# Altium schematic symbol library 6_Layer_Library.SchLib: 38 symbols
Pins are listed as number, name and electrical type; pins without a type are passive.

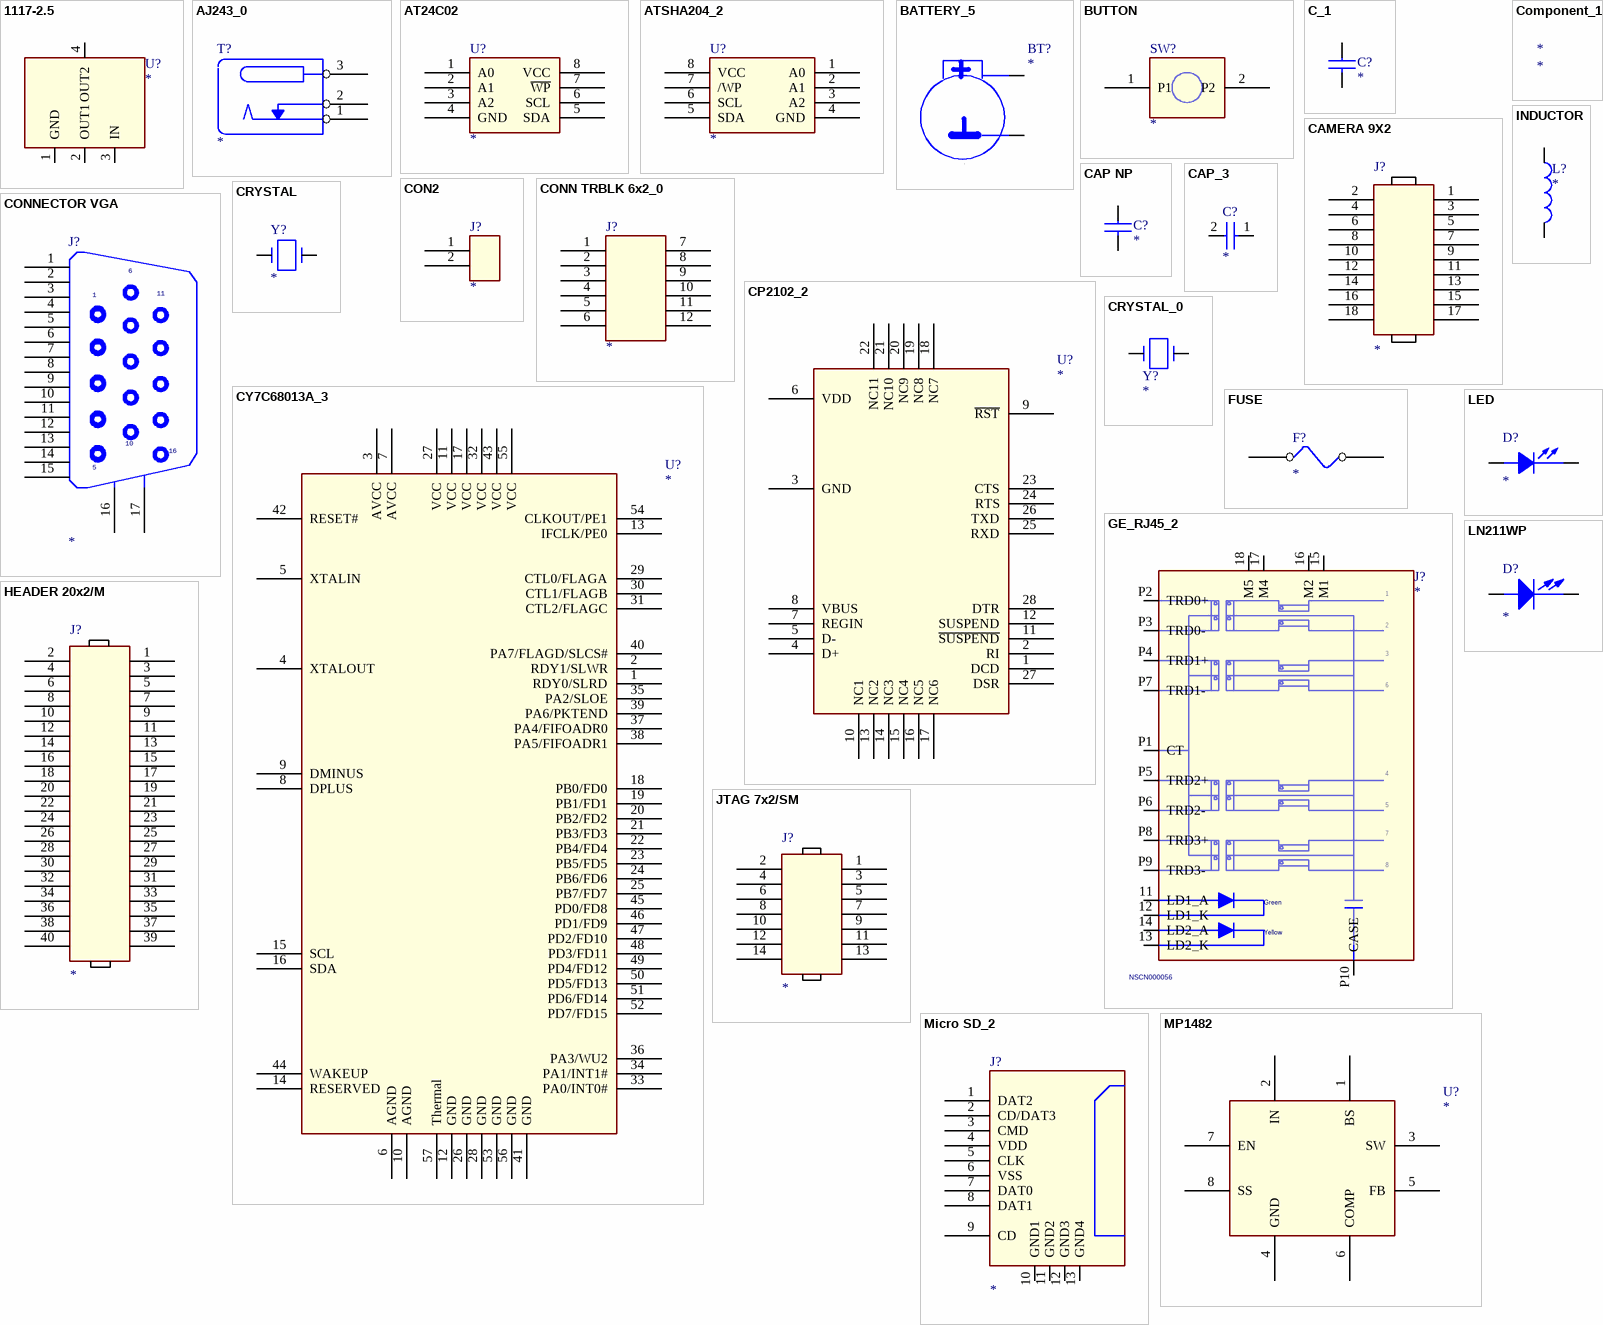
[diagram p0: symbols 1117-2.5 to MP1482]

## 1117-2.5
designator U?
footprint SOT223
pins: 1 GND, 2 OUT1, 3 IN, 4 OUT2

## AJ243_0
designator T?
pins: 1, 2, 3

## AT24C02
designator U?
pins: 1 A0 (power), 2 A1 (power), 3 A2 (power), 4 GND, 5 SDA, 6 SCL, 7 ~{WP}, 8 VCC

## ATSHA204_2
designator U?
footprint ATSHA204-TSU
pins: 1 A0, 2 A1, 3 A2, 4 GND, 5 SDA, 6 SCL, 7 /WP, 8 VCC

## BATTERY_5
designator BT?
pins: 1, 2, 3, 4

## BUTTON
designator SW?
pins: 1 P1, 2 P2

## C_1
designator C?
pins: 1, 2

## CAMERA 9X2
designator J?
pins: 1, 2, 3, 4, 5, 6, 7, 8, 9, 10, 11, 12, 13, 14, 15, 16, 17, 18

## CAP NP
designator C?
pins: 1, 2

## CAP_3
designator C?
pins: 1, 2

## Component_1
designator *

## CON2
designator J?
pins: 1, 2

## CONN TRBLK 6x2_0
designator J?
pins: 1, 2, 3, 4, 5, 6, 7, 8, 9, 10, 11, 12

## CONNECTOR VGA
designator J?
pins: 1, 2, 3, 4, 5, 6, 7, 8, 9, 10, 11, 12, 13, 14, 15, 16, 17

## CP2102_2
designator U?
pins: 1 DCD, 2 RI, 3 GND (power), 4 D+, 5 D-, 6 VDD (power), 7 REGIN, 8 VBUS, 9 ~{RST}, 10 NC1, 11 ~{SUSPEND}, 12 SUSPEND, 13 NC2, 14 NC3, 15 NC4, 16 NC5, 17 NC6, 18 NC7, 19 NC8, 20 NC9, 21 NC10, 22 NC11, 23 CTS, 24 RTS, 25 RXD, 26 TXD, 27 DSR, 28 DTR, 29 EPAD1 (power) hidden to EPAD1, 30 EPAD2 (power) hidden to EPAD2

## CRYSTAL
designator Y?
pins: 1, 2

## CRYSTAL_0
designator Y?
pins: 1, 2, 3

## CY7C68013A_3
designator U?
pins: 1 RDY0/SLRD, 2 RDY1/SLWR, 3 AVCC (power), 4 XTALOUT, 5 XTALIN, 6 AGND (power), 7 AVCC (power), 8 DPLUS, 9 DMINUS, 10 AGND (power), 11 VCC (power), 12 GND (power), 13 IFCLK/PE0, 14 RESERVED, 15 SCL, 16 SDA, 17 VCC (power), 18 PB0/FD0, 19 PB1/FD1, 20 PB2/FD2, 21 PB3/FD3, 22 PB4/FD4, 23 PB5/FD5, 24 PB6/FD6, 25 PB7/FD7, 26 GND (power), 27 VCC (power), 28 GND (power), 29 CTL0/FLAGA, 30 CTL1/FLAGB, 31 CTL2/FLAGC, 32 VCC (power), 33 PA0/INT0#, 34 PA1/INT1#, 35 PA2/SLOE, 36 PA3/WU2, 37 PA4/FIFOADR0, 38 PA5/FIFOADR1, 39 PA6/PKTEND, 40 PA7/FLAGD/SLCS#, 41 GND (power), 42 RESET# (power), 43 VCC (power), 44 WAKEUP, 45 PD0/FD8, 46 PD1/FD9, 47 PD2/FD10, 48 PD3/FD11, 49 PD4/FD12, 50 PD5/FD13, 51 PD6/FD14, 52 PD7/FD15, 53 GND (power), 54 CLKOUT/PE1, 55 VCC (power), 56 GND (power), 57 Thermal (power)

## FUSE
designator F?
pins: 1, 2

## GE_RJ45_2
designator J?  CODE: NSCN000056
footprint GE_RJ45
pins: 11 LD1_A, 12 LD1_K, 13 LD2_K, 14 LD2_A, 15 M1, 16 M2, 17 M4, 18 M5, P1 CT, P2 TRD0+, P3 TRD0-, P4 TRD1+, P5 TRD2+, P6 TRD2-, P7 TRD1-, P8 TRD3+, P9 TRD3-, P10 CASE
text: 1; 2; 3; 6; 4; 5; 7; 8; Green; Yellow

## HEADER 20x2/M
designator J?
pins: 1, 2, 3, 4, 5, 6, 7, 8, 9, 10, 11, 12, 13, 14, 15, 16, 17, 18, 19, 20, 21, 22, 23, 24, 25, 26, 27, 28, 29, 30, 31, 32, 33, 34, 35, 36, 37, 38, 39, 40

## INDUCTOR
designator L?
pins: 1, 2

## JTAG 7x2/SM
designator J?
pins: 1, 2, 3, 4, 5, 6, 7, 8, 9, 10, 11, 12, 13, 14

## LED
designator D?
pins: 1 ANODE, 2 CATHODE

## LN211WP
designator D?
pins: 1 ANODE, 2 CATHODE

## Micro SD_2
designator J?
footprint Micro_usb
pins: 1 DAT2, 2 CD/DAT3, 3 CMD, 4 VDD (power), 5 CLK, 6 VSS (power), 7 DAT0, 8 DAT1, 9 CD, 10 GND1 (power), 11 GND2 (power), 12 GND3 (power), 13 GND4 (power)

## MP1482
designator U?
pins: 1 BS, 2 IN, 3 SW, 4 GND, 5 FB, 6 COMP, 7 EN, 8 SS

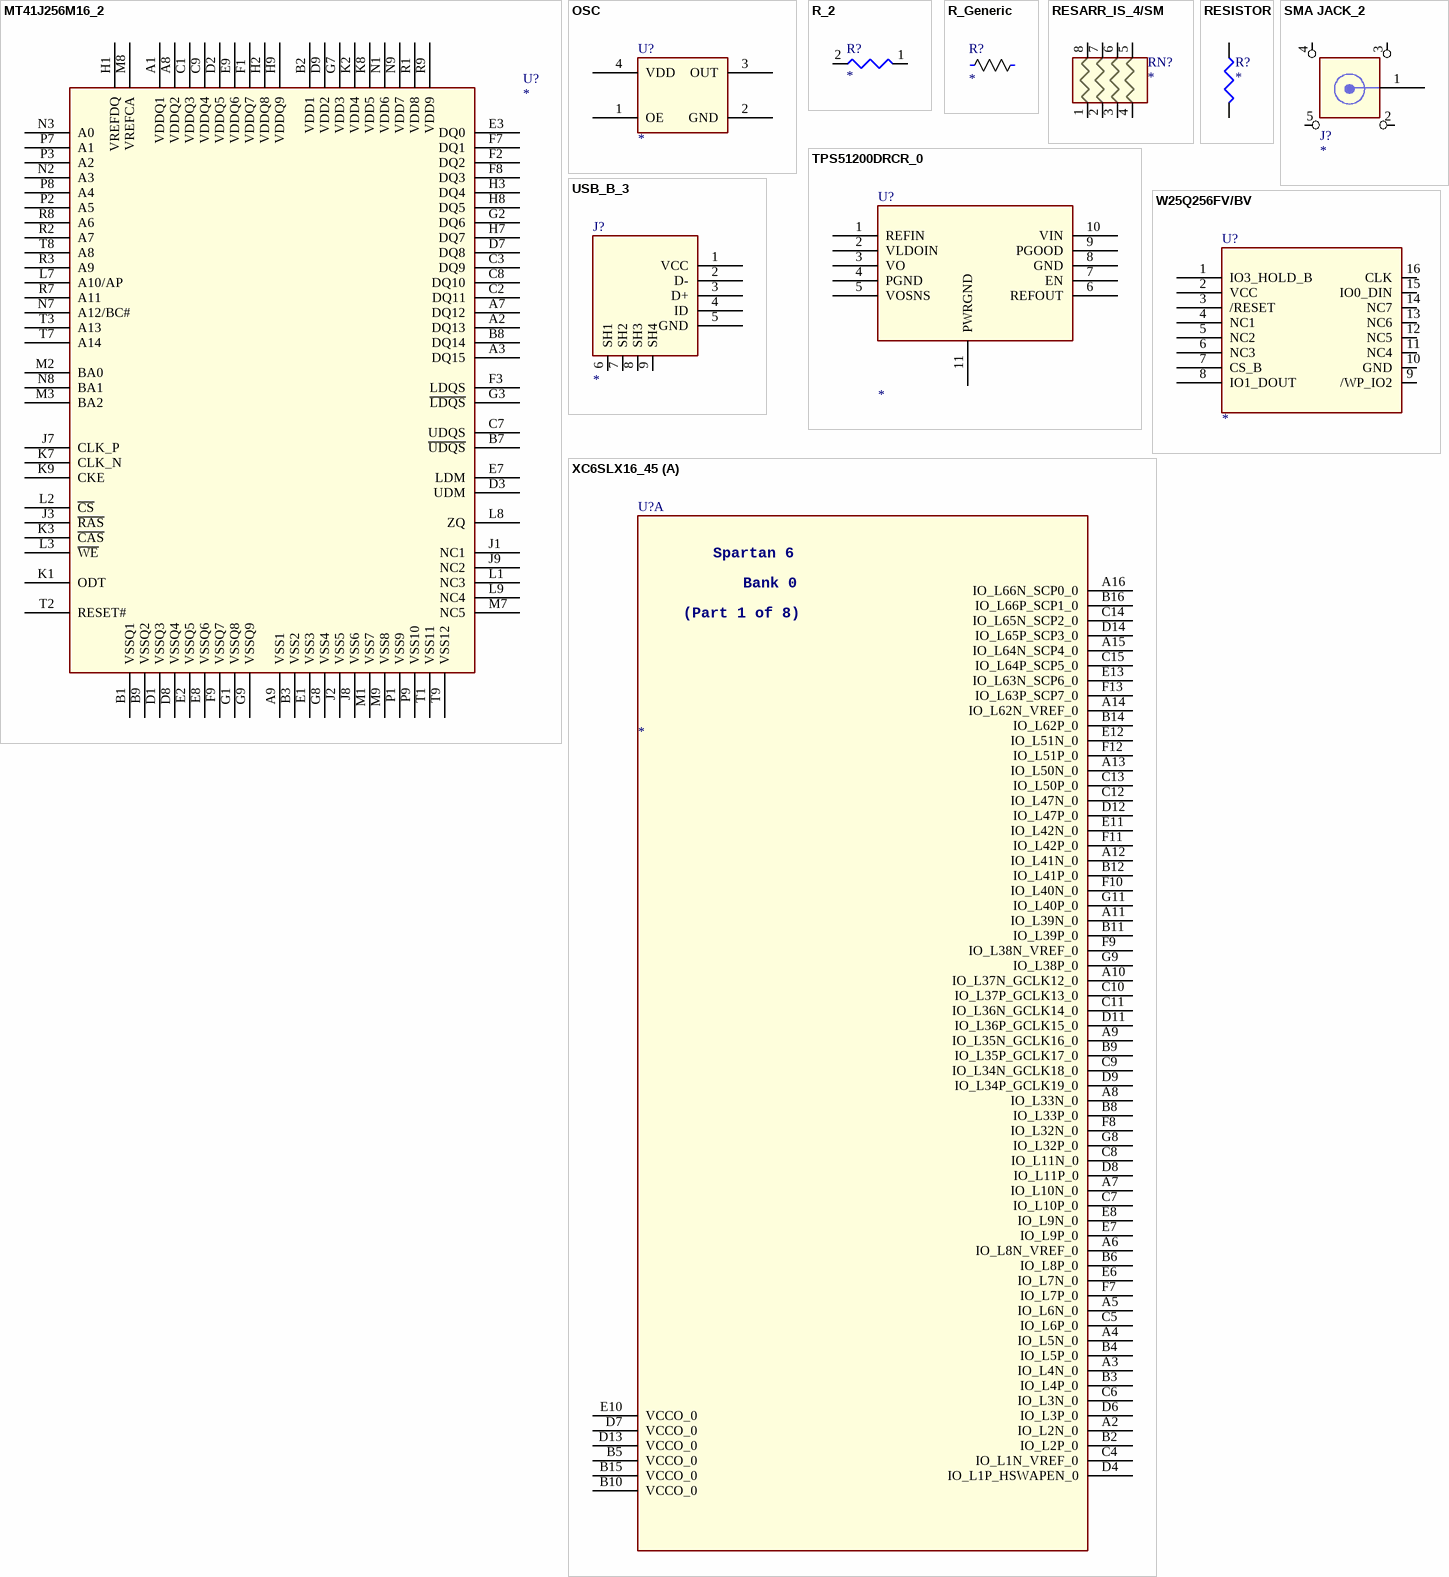
[diagram p1: symbols MT41J256M16_2 to XC6SLX16_45]

## MT41J256M16_2
designator U?
footprint FBGA-96
pins: A1 VDDQ1 (power), A2 DQ13 (power), A3 DQ15 (power), A7 DQ12 (power), A8 VDDQ2 (power), A9 VSS1 (power), B1 VSSQ1 (power), B2 VDD1 (power), B3 VSS2 (power), B7 ~{UDQS} (power), B8 DQ14 (power), B9 VSSQ2 (power), C1 VDDQ3 (power), C2 DQ11 (power), C3 DQ9 (power), C7 UDQS (power), C8 DQ10 (power), C9 VDDQ4 (power), D1 VSSQ3 (power), D2 VDDQ5 (power), D3 UDM, D7 DQ8 (power), D8 VSSQ4 (power), D9 VDD2 (power), E1 VSS3 (power), E2 VSSQ5 (power), E3 DQ0 (power), E7 LDM, E8 VSSQ6 (power), E9 VDDQ6 (power), F1 VDDQ7 (power), F2 DQ2 (power), F3 LDQS (power), F7 DQ1 (power), F8 DQ3 (power), F9 VSSQ7 (power), G1 VSSQ8 (power), G2 DQ6 (power), G3 ~{LDQS} (power), G7 VDD3 (power), G8 VSS4 (power), G9 VSSQ9 (power), H1 VREFDQ (power), H2 VDDQ8 (power), H3 DQ4 (power), H7 DQ7 (power), H8 DQ5 (power), H9 VDDQ9 (power), J1 NC1, J2 VSS5 (power), J3 ~{RAS}, J7 CLK_P, J8 VSS6 (power), J9 NC2, K1 ODT, K2 VDD4 (power), K3 ~{CAS}, K7 CLK_N, K8 VDD5 (power), K9 CKE, L1 NC3, L2 ~{CS}, L3 ~{WE}, L7 A10/AP, L8 ZQ (power), L9 NC4, M1 VSS7 (power), M2 BA0, M3 BA2, M7 NC5, M8 VREFCA (power), M9 VSS8 (power), N1 VDD6 (power), N2 A3, N3 A0, N7 A12/BC#, N8 BA1, N9 VDD7 (power), P1 VSS9 (power), P2 A5, P3 A2, P7 A1, P8 A4, P9 VSS10 (power), R1 VDD8 (power), R2 A7, R3 A9, R7 A11, R8 A6, R9 VDD9 (power), T1 VSS11 (power), T2 RESET# (power), T3 A13, T7 A14 (power), T8 A8, T9 VSS12 (power)

## OSC
designator U?
pins: 1 OE, 2 GND, 3 OUT, 4 VDD

## R_2
designator R?
pins: 1, 2

## R_Generic
designator R?
pins: 1, 2

## RESARR_IS_4/SM
designator RN?
pins: 1, 2, 3, 4, 5, 6, 7, 8

## RESISTOR
designator R?
pins: 1, 2

## SMA JACK_2
designator J?
pins: 1 CENTER, 2 SHIELD1, 3 SHIELD2, 4 SHIELD3, 5 SHIELD4

## TPS51200DRCR_0
designator U?
footprint TPS51200DRCR
pins: 1 REFIN, 2 VLDOIN, 3 VO, 4 PGND, 5 VOSNS, 6 REFOUT, 7 EN, 8 GND, 9 PGOOD, 10 VIN, 11 PWRGND

## USB_B_3
designator J?
pins: 1 VCC, 2 D-, 3 D+, 4 ID, 5 GND, 6 SH1 (power), 7 SH2 (power), 8 SH3 (power), 9 SH4 (power)

## W25Q256FV/BV
designator U?
footprint WSON-8X6
pins: 1 IO3_HOLD_B, 2 VCC, 3 /RESET, 4 NC1, 5 NC2, 6 NC3, 7 CS_B, 8 IO1_DOUT, 9 /WP_IO2, 10 GND, 11 NC4, 12 NC5, 13 NC6, 14 NC7, 15 IO0_DIN, 16 CLK

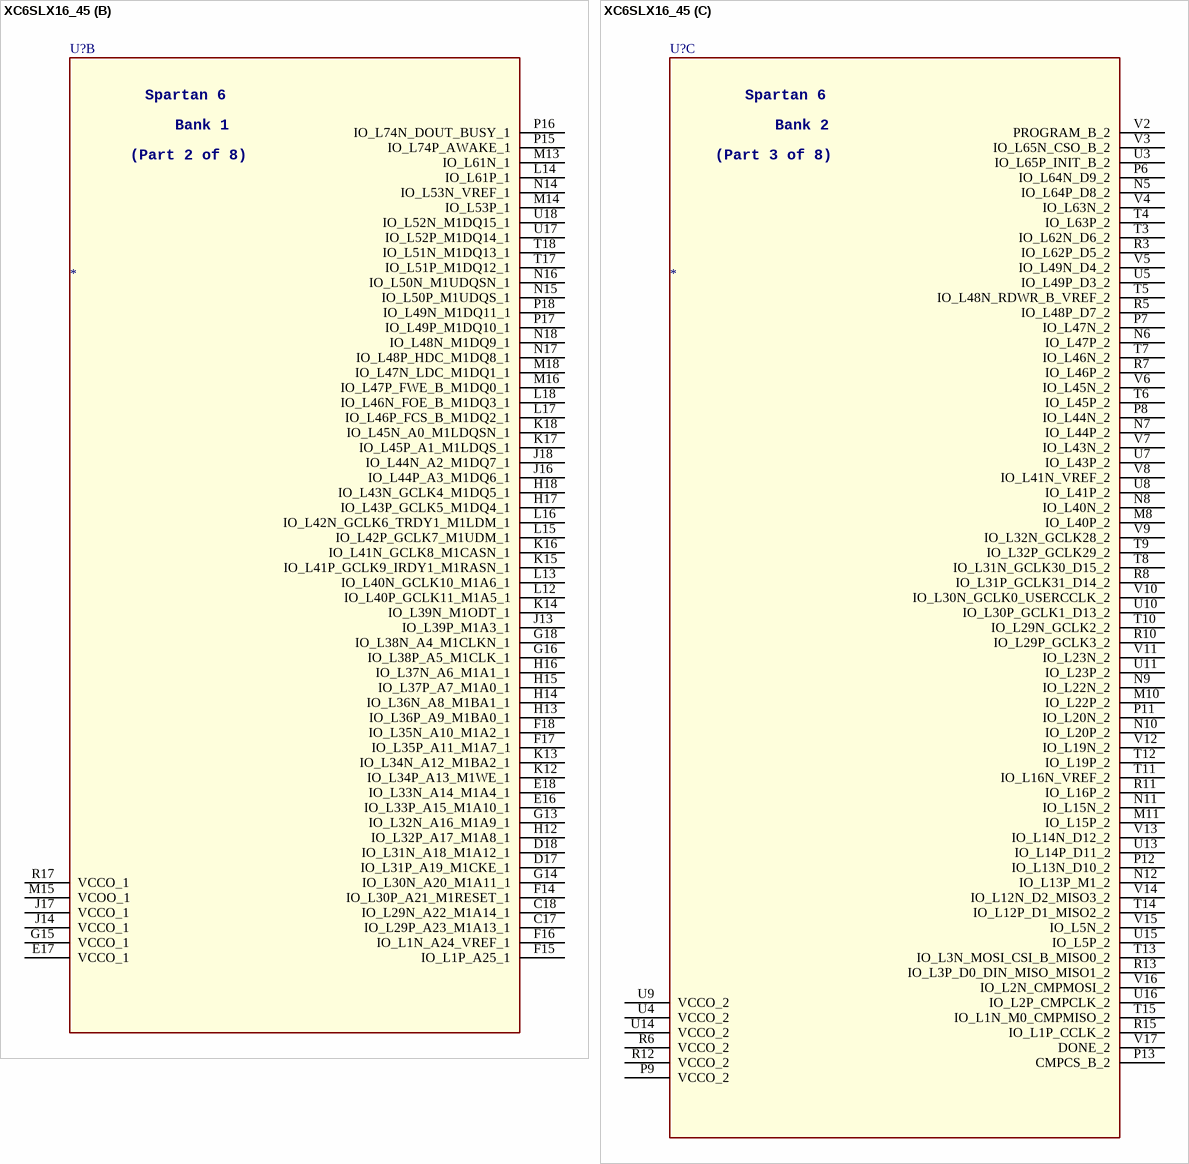
[diagram p2: symbol XC6SLX16_45]

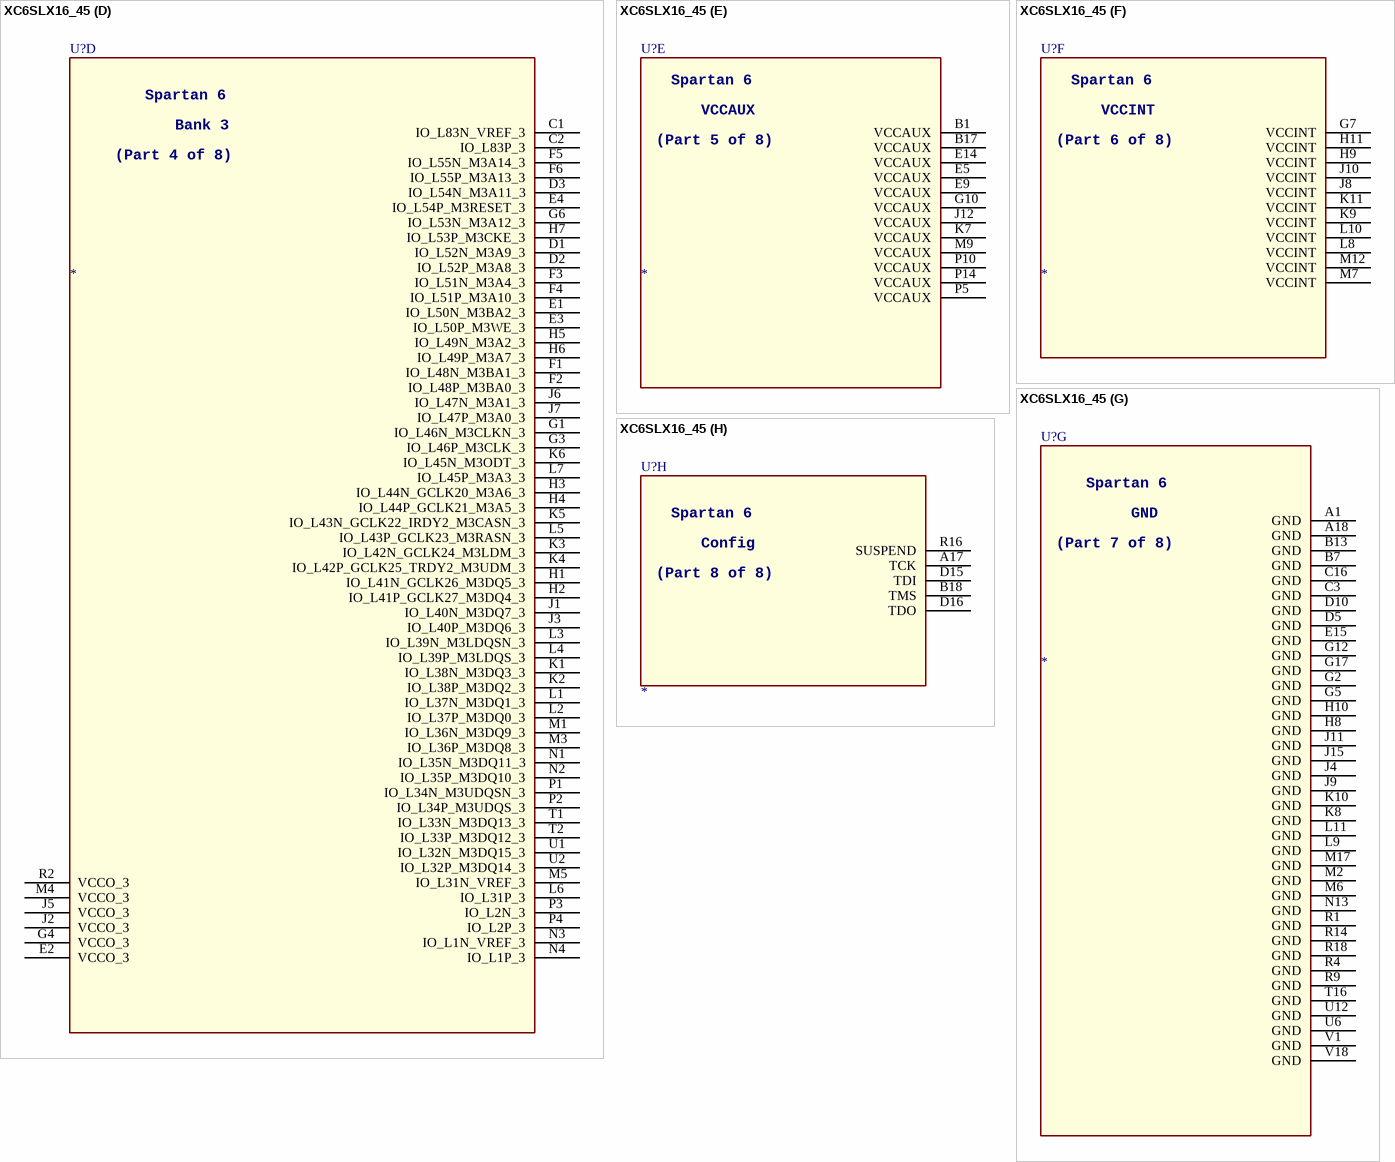
[diagram p3: symbol XC6SLX16_45]

## XC6SLX16_45
designator U?
part A pins: A2 IO_L2N_0, A3 IO_L4N_0, A4 IO_L5N_0, A5 IO_L6N_0, A6 IO_L8N_VREF_0, A7 IO_L10N_0, A8 IO_L33N_0, A9 IO_L35N_GCLK16_0, A10 IO_L37N_GCLK12_0, A11 IO_L39N_0, A12 IO_L41N_0, A13 IO_L50N_0, A14 IO_L62N_VREF_0, A15 IO_L64N_SCP4_0, A16 IO_L66N_SCP0_0, B2 IO_L2P_0, B3 IO_L4P_0, B4 IO_L5P_0, B5 VCCO_0 (power), B6 IO_L8P_0, B8 IO_L33P_0, B9 IO_L35P_GCLK17_0, B10 VCCO_0 (power), B11 IO_L39P_0, B12 IO_L41P_0, B14 IO_L62P_0, B15 VCCO_0 (power), B16 IO_L66P_SCP1_0, C4 IO_L1N_VREF_0, C5 IO_L6P_0, C6 IO_L3N_0, C7 IO_L10P_0, C8 IO_L11N_0, C9 IO_L34N_GCLK18_0, C10 IO_L37P_GCLK13_0, C11 IO_L36N_GCLK14_0, C12 IO_L47N_0, C13 IO_L50P_0, C14 IO_L65N_SCP2_0, C15 IO_L64P_SCP5_0, D4 IO_L1P_HSWAPEN_0, D6 IO_L3P_0, D7 VCCO_0 (power), D8 IO_L11P_0, D9 IO_L34P_GCLK19_0, D11 IO_L36P_GCLK15_0, D12 IO_L47P_0, D13 VCCO_0 (power), D14 IO_L65P_SCP3_0, E6 IO_L7N_0, E7 IO_L9P_0, E8 IO_L9N_0, E10 VCCO_0 (power), E11 IO_L42N_0, E12 IO_L51N_0, E13 IO_L63N_SCP6_0, F7 IO_L7P_0, F8 IO_L32N_0, F9 IO_L38N_VREF_0, F10 IO_L40N_0, F11 IO_L42P_0, F12 IO_L51P_0, F13 IO_L63P_SCP7_0, G8 IO_L32P_0, G9 IO_L38P_0, G11 IO_L40P_0
part B pins: C17 IO_L29P_A23_M1A13_1, C18 IO_L29N_A22_M1A14_1, D17 IO_L31P_A19_M1CKE_1, D18 IO_L31N_A18_M1A12_1, E16 IO_L33P_A15_M1A10_1, E17 VCCO_1 (power), E18 IO_L33N_A14_M1A4_1, F14 IO_L30P_A21_M1RESET_1, F15 IO_L1P_A25_1, F16 IO_L1N_A24_VREF_1, F17 IO_L35P_A11_M1A7_1, F18 IO_L35N_A10_M1A2_1, G13 IO_L32N_A16_M1A9_1, G14 IO_L30N_A20_M1A11_1, G15 VCCO_1 (power), G16 IO_L38P_A5_M1CLK_1, G18 IO_L38N_A4_M1CLKN_1, H12 IO_L32P_A17_M1A8_1, H13 IO_L36P_A9_M1BA0_1, H14 IO_L36N_A8_M1BA1_1, H15 IO_L37P_A7_M1A0_1, H16 IO_L37N_A6_M1A1_1, H17 IO_L43P_GCLK5_M1DQ4_1, H18 IO_L43N_GCLK4_M1DQ5_1, J13 IO_L39P_M1A3_1, J14 VCCO_1 (power), J16 IO_L44P_A3_M1DQ6_1, J17 VCCO_1 (power), J18 IO_L44N_A2_M1DQ7_1, K12 IO_L34P_A13_M1WE_1, K13 IO_L34N_A12_M1BA2_1, K14 IO_L39N_M1ODT_1, K15 IO_L41P_GCLK9_IRDY1_M1RASN_1, K16 IO_L41N_GCLK8_M1CASN_1, K17 IO_L45P_A1_M1LDQS_1, K18 IO_L45N_A0_M1LDQSN_1, L12 IO_L40P_GCLK11_M1A5_1, L13 IO_L40N_GCLK10_M1A6_1, L14 IO_L61P_1, L15 IO_L42P_GCLK7_M1UDM_1, L16 IO_L42N_GCLK6_TRDY1_M1LDM_1, L17 IO_L46P_FCS_B_M1DQ2_1, L18 IO_L46N_FOE_B_M1DQ3_1, M13 IO_L61N_1, M14 IO_L53P_1, M15 VCOO_1 (power), M16 IO_L47P_FWE_B_M1DQ0_1, M18 IO_L47N_LDC_M1DQ1_1, N14 IO_L53N_VREF_1, N15 IO_L50P_M1UDQS_1, N16 IO_L50N_M1UDQSN_1, N17 IO_L48P_HDC_M1DQ8_1, N18 IO_L48N_M1DQ9_1, P15 IO_L74P_AWAKE_1, P16 IO_L74N_DOUT_BUSY_1, P17 IO_L49P_M1DQ10_1, P18 IO_L49N_M1DQ11_1, R17 VCCO_1 (power), T17 IO_L51P_M1DQ12_1, T18 IO_L51N_M1DQ13_1, U17 IO_L52P_M1DQ14_1, U18 IO_L52N_M1DQ15_1
part C pins: M8 IO_L40P_2, M10 IO_L22P_2, M11 IO_L15P_2, N5 IO_L64P_D8_2, N6 IO_L47P_2, N7 IO_L44P_2, N8 IO_L40N_2, N9 IO_L22N_2, N10 IO_L20P_2, N11 IO_L15N_2, N12 IO_L13P_M1_2, P6 IO_L64N_D9_2, P7 IO_L47N_2, P8 IO_L44N_2, P9 VCCO_2 (power), P11 IO_L20N_2, P12 IO_L13N_D10_2, P13 CMPCS_B_2, R3 IO_L62P_D5_2, R5 IO_L48P_D7_2, R6 VCCO_2 (power), R7 IO_L46P_2, R8 IO_L31P_GCLK31_D14_2, R10 IO_L29P_GCLK3_2, R11 IO_L16P_2, R12 VCCO_2 (power), R13 IO_L3P_D0_DIN_MISO_MISO1_2, R15 IO_L1P_CCLK_2, T3 IO_L62N_D6_2, T4 IO_L63P_2, T5 IO_L48N_RDWR_B_VREF_2, T6 IO_L45P_2, T7 IO_L46N_2, T8 IO_L31N_GCLK30_D15_2, T9 IO_L32P_GCLK29_2, T10 IO_L29N_GCLK2_2, T11 IO_L16N_VREF_2, T12 IO_L19P_2, T13 IO_L3N_MOSI_CSI_B_MISO0_2, T14 IO_L12P_D1_MISO2_2, T15 IO_L1N_M0_CMPMISO_2, U3 IO_L65P_INIT_B_2, U4 VCCO_2 (power), U5 IO_L49P_D3_2, U7 IO_L43P_2, U8 IO_L41P_2, U9 VCCO_2 (power), U10 IO_L30P_GCLK1_D13_2, U11 IO_L23P_2, U13 IO_L14P_D11_2, U14 VCCO_2 (power), U15 IO_L5P_2, U16 IO_L2P_CMPCLK_2, V2 PROGRAM_B_2, V3 IO_L65N_CSO_B_2, V4 IO_L63N_2, V5 IO_L49N_D4_2, V6 IO_L45N_2, V7 IO_L43N_2, V8 IO_L41N_VREF_2, V9 IO_L32N_GCLK28_2, V10 IO_L30N_GCLK0_USERCCLK_2, V11 IO_L23N_2, V12 IO_L19N_2, V13 IO_L14N_D12_2, V14 IO_L12N_D2_MISO3_2, V15 IO_L5N_2, V16 IO_L2N_CMPMOSI_2, V17 DONE_2
part D pins: C1 IO_L83N_VREF_3, C2 IO_L83P_3, D1 IO_L52N_M3A9_3, D2 IO_L52P_M3A8_3, D3 IO_L54N_M3A11_3, E1 IO_L50N_M3BA2_3, E2 VCCO_3 (power), E3 IO_L50P_M3WE_3, E4 IO_L54P_M3RESET_3, F1 IO_L48N_M3BA1_3, F2 IO_L48P_M3BA0_3, F3 IO_L51N_M3A4_3, F4 IO_L51P_M3A10_3, F5 IO_L55N_M3A14_3, F6 IO_L55P_M3A13_3, G1 IO_L46N_M3CLKN_3, G3 IO_L46P_M3CLK_3, G4 VCCO_3 (power), G6 IO_L53N_M3A12_3, H1 IO_L41N_GCLK26_M3DQ5_3, H2 IO_L41P_GCLK27_M3DQ4_3, H3 IO_L44N_GCLK20_M3A6_3, H4 IO_L44P_GCLK21_M3A5_3, H5 IO_L49N_M3A2_3, H6 IO_L49P_M3A7_3, H7 IO_L53P_M3CKE_3, J1 IO_L40N_M3DQ7_3, J2 VCCO_3 (power), J3 IO_L40P_M3DQ6_3, J5 VCCO_3 (power), J6 IO_L47N_M3A1_3, J7 IO_L47P_M3A0_3, K1 IO_L38N_M3DQ3_3, K2 IO_L38P_M3DQ2_3, K3 IO_L42N_GCLK24_M3LDM_3, K4 IO_L42P_GCLK25_TRDY2_M3UDM_3, K5 IO_L43N_GCLK22_IRDY2_M3CASN_3, K6 IO_L45N_M3ODT_3, L1 IO_L37N_M3DQ1_3, L2 IO_L37P_M3DQ0_3, L3 IO_L39N_M3LDQSN_3, L4 IO_L39P_M3LDQS_3, L5 IO_L43P_GCLK23_M3RASN_3, L6 IO_L31P_3, L7 IO_L45P_M3A3_3, M1 IO_L36N_M3DQ9_3, M3 IO_L36P_M3DQ8_3, M4 VCCO_3 (power), M5 IO_L31N_VREF_3, N1 IO_L35N_M3DQ11_3, N2 IO_L35P_M3DQ10_3, N3 IO_L1N_VREF_3, N4 IO_L1P_3, P1 IO_L34N_M3UDQSN_3, P2 IO_L34P_M3UDQS_3, P3 IO_L2N_3, P4 IO_L2P_3, R2 VCCO_3 (power), T1 IO_L33N_M3DQ13_3, T2 IO_L33P_M3DQ12_3, U1 IO_L32N_M3DQ15_3, U2 IO_L32P_M3DQ14_3
part E pins: B1 VCCAUX (power), B17 VCCAUX (power), E5 VCCAUX (power), E9 VCCAUX (power), E14 VCCAUX (power), G10 VCCAUX (power), J12 VCCAUX (power), K7 VCCAUX (power), M9 VCCAUX (power), P5 VCCAUX (power), P10 VCCAUX (power), P14 VCCAUX (power)
part F pins: G7 VCCINT (power), H9 VCCINT (power), H11 VCCINT (power), J8 VCCINT (power), J10 VCCINT (power), K9 VCCINT (power), K11 VCCINT (power), L8 VCCINT (power), L10 VCCINT (power), M7 VCCINT (power), M12 VCCINT (power)
part G pins: A1 GND (power), A18 GND (power), B7 GND (power), B13 GND (power), C3 GND (power), C16 GND (power), D5 GND (power), D10 GND (power), E15 GND (power), G2 GND (power), G5 GND (power), G12 GND (power), G17 GND (power), H8 GND (power), H10 GND (power), J4 GND (power), J9 GND (power), J11 GND (power), J15 GND (power), K8 GND (power), K10 GND (power), L9 GND (power), L11 GND (power), M2 GND (power), M6 GND (power), M17 GND (power), N13 GND (power), R1 GND (power), R4 GND (power), R9 GND (power), R14 GND (power), R18 GND (power), T16 GND (power), U6 GND (power), U12 GND (power), V1 GND (power), V18 GND (power)
part H pins: A17 TCK, B18 TMS, D15 TDI, D16 TDO, R16 SUSPEND
part A text: Spartan 6; Bank 0; (Part 1 of 8)
part B text: Spartan 6; Bank 1; (Part 2 of 8)
part C text: Spartan 6; Bank 2; (Part 3 of 8)
part D text: Spartan 6; Bank 3; (Part 4 of 8)
part E text: Spartan 6; (Part 5 of 8)
part F text: Spartan 6; (Part 6 of 8)
part G text: Spartan 6; (Part 7 of 8)
part H text: Spartan 6; Config; (Part 8 of 8)